# Altium schematic symbol library 74HC4067.SchLib: 1 symbol
Pins are listed as number, name and electrical type; pins without a type are passive.

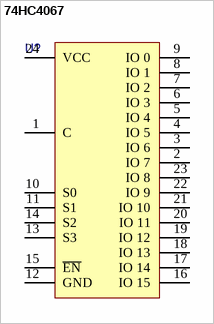
[diagram p0: symbol 74HC4067]

## 74HC4067
designator U?
pins: 1 C, 2 IO 7, 3 IO 6, 4 IO 5, 5 IO 4, 6 IO 3, 7 IO 2, 8 IO 1, 9 IO 0, 10 S0, 11 S1, 12 GND, 13 S3, 14 S2, 15 ~{EN}, 16 IO 15, 17 IO 14, 18 IO 13, 19 IO 12, 20 IO 11, 21 IO 10, 22 IO 9, 23 IO 8, 24 VCC